# EAGLE library part EPIC-PROG-POGO (library epic)
Epic programmer based on the Tag Connect pogo pin cable.
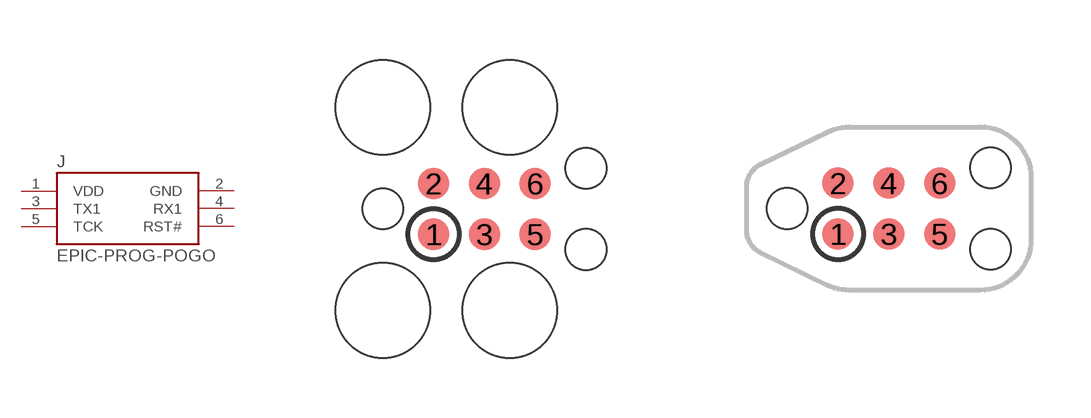
[diagram p34: symbol with the pads of TC2030-IDC; footprints TC2030-IDC, TC2030-IDC-NL]

Designator prefix J

## EPIC-PROG-POGO-LEGS (TAG-CONNECT: TC2030-IDC)  [TC2030-IDC]
1  VDD
2  GND
3  TX1
4  RX1
5  TCK
6  RST#

## EPIC-PROG-POGO-NO-LEGS (TAG-CONNECT: TC2030-IDC-NL)  [TC2030-IDC-NL]
Pads as for TC2030-IDC

## Footprint TC2030-IDC (pad centres in mm)
Tag Connect TC2030-IDC
smd 0.787 x 0.787: 1 -1.27,-0.635; 2 -1.27,0.635; 3 0,-0.635; 4 0,0.635; 5 1.27,-0.635; 6 1.27,0.635
hole 2.375 at -2.54,2.54
hole 2.375 at 0.635,2.54
hole 2.375 at 0.635,-2.54
hole 2.375 at -2.54,-2.54
hole 1.016 at -2.54,0
hole 1.016 at 2.54,1.016
hole 1.016 at 2.54,-1.016

## Footprint TC2030-IDC-NL (pad centres in mm)
The TC2030-IDC-NL is our "No Legs" 6-pin Plug-of-Nails Cable
smd 0.787 x 0.787: 1 -1.27,-0.635; 2 -1.27,0.635; 3 0,-0.635; 4 0,0.635; 5 1.27,-0.635; 6 1.27,0.635
hole 1.016 at -2.54,0
hole 1.016 at 2.54,1.016
hole 1.016 at 2.54,-1.016